# Altium footprint library XM125.PcbLib: 3 footprints
Each footprint in its own frame and in the unit in brackets; x right, y up, seen from the top. Pads: shape width x height; smd on the part's side, far side on the other; paste and mask are expansions set on the pad; w line width, h text height; cw(c..) or ccw(c..) is an arc to the next point about the centre after c.
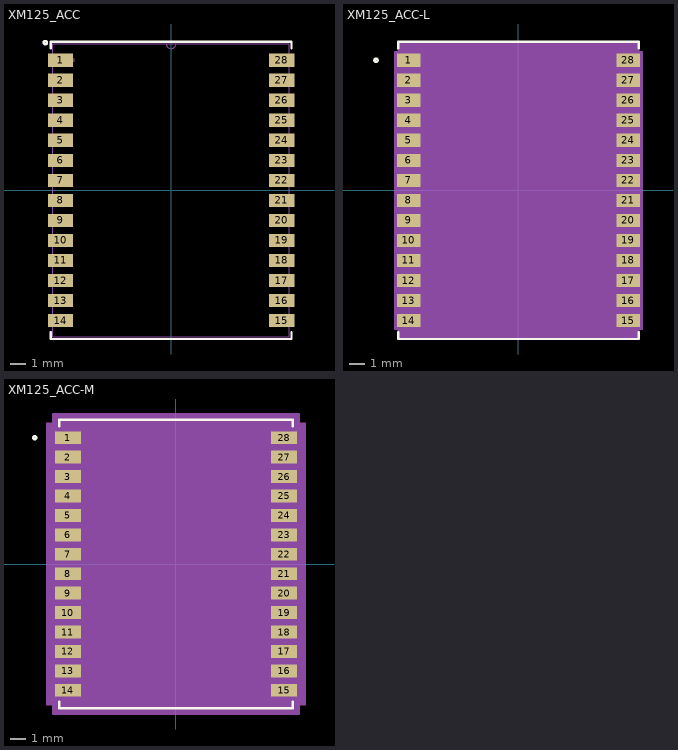
[diagram p0: the footprints below, top view; thin cyan lines are the x and y axes]

## XM125_ACC [mil]
pads (28):
  rect 63x33 smd paste+0 mask+0: 1(-276,325) 2(-276,275) 3(-276,225) 4(-276,175) 5(-276,125) 6(-276,75) 7(-276,25) 8(-276,-25) 9(-276,-75) 10(-276,-125) 11(-276,-175) 12(-276,-225) 13(-276,-275) 14(-276,-325) 15(276,-325) 16(276,-275) 17(276,-225) 18(276,-175) 19(276,-125) 20(276,-75) 21(276,-25) 22(276,25) 23(276,75) 24(276,125) 25(276,175) 26(276,225) 27(276,275) 28(276,325)
Top Overlay:
  circle w6: c-313.98,369.09 r4
  lines w6: -300.5,-354.6 -300.5,-371 300.5,-371 300.5,-354.6 ; -300.5,354.6 -300.5,371 300.5,371 300.5,354.6
Mechanical 13:
  circle w1: c-244.5,325 r3
  lines w1: -12,366 ccw(c0,366) 12,366 ; -295.5,-366 -295.5,366 295.5,366 295.5,-366 -295.5,-366
  text ".Designator" at 165,395 h39.37
3D body "XM125.STEP": height 62.99, standoff -1, extent -295.5,-366.28 295.05,366

## XM125_ACC-L [mil]
pads (28):
  rect 59x33 smd paste+0 mask+0: 1(-274,325) 2(-274,275) 3(-274,225) 4(-274,175) 5(-274,125) 6(-274,75) 7(-274,25) 8(-274,-25) 9(-274,-75) 10(-274,-125) 11(-274,-175) 12(-274,-225) 13(-274,-275) 14(-274,-325) 15(274,-325) 16(274,-275) 17(274,-225) 18(274,-175) 19(274,-125) 20(274,-75) 21(274,-25) 22(274,25) 23(274,75) 24(274,125) 25(274,175) 26(274,225) 27(274,275) 28(274,325)
Top Overlay:
  circle w6: c-355.5,325 r4
  lines w6: -300.5,-354.6 -300.5,-371 300.5,-371 300.5,-354.6 ; -300.5,354.6 -300.5,371 300.5,371 300.5,354.6
  text ".Designator" at -137.5,-25 h50
Mechanical 13:
  circle w1: c-244.5,325 r3
  lines w1: -12,366 ccw(c0,366) 12,366 ; -295.5,-366 295.5,-366 295.5,366 -295.5,366 -295.5,-366
  text ".Designator" at -137.5,-25 h50
Mechanical 15:
  region: -299.5,-345.5 -307.5,-345.5 -307.5,345.5 -299.5,345.5 -299.5,370 299.5,370 299.5,345.5 307.5,345.5 307.5,-345.5 299.5,-345.5 299.5,-370 -299.5,-370
  lines w6: -307.5,-345.5 -307.5,345.5 -299.5,345.5 -299.5,370 299.5,370 299.5,345.5 307.5,345.5 307.5,-345.5 299.5,-345.5 299.5,-370 -299.5,-370 -299.5,-345.5 -307.5,-345.5
3D body "XM125_ACC.step": height 39.09, standoff 0, extent -295.51,-365.98 295.51,365.98

## XM125_ACC-M [mil]
pads (28):
  rect 67x33 smd paste+0 mask+0: 1(-278,325) 2(-278,275) 3(-278,225) 4(-278,175) 5(-278,125) 6(-278,75) 7(-278,25) 8(-278,-25) 9(-278,-75) 10(-278,-125) 11(-278,-175) 12(-278,-225) 13(-278,-275) 14(-278,-325) 15(278,-325) 16(278,-275) 17(278,-225) 18(278,-175) 19(278,-125) 20(278,-75) 21(278,-25) 22(278,25) 23(278,75) 24(278,125) 25(278,175) 26(278,225) 27(278,275) 28(278,325)
Top Overlay:
  circle w6: c-363.5,325 r4
  lines w6: -300.5,-354.6 -300.5,-371 300.5,-371 300.5,-354.6 ; -300.5,354.6 -300.5,371 300.5,371 300.5,354.6
  text ".Designator" at -137.5,-25 h50
Mechanical 13:
  circle w1: c-244.5,325 r3
  lines w1: -12,366 ccw(c0,366) 12,366 ; -295.5,-366 295.5,-366 295.5,366 -295.5,366 -295.5,-366
  text ".Designator" at -137.5,-25 h50
Mechanical 15:
  region: -315.5,-361.5 -331.5,-361.5 -331.5,361.5 -315.5,361.5 -315.5,386 315.5,386 315.5,361.5 331.5,361.5 331.5,-361.5 315.5,-361.5 315.5,-386 -315.5,-386
  lines w6: -331.5,-361.5 -331.5,361.5 -315.5,361.5 -315.5,386 315.5,386 315.5,361.5 331.5,361.5 331.5,-361.5 315.5,-361.5 315.5,-386 -315.5,-386 -315.5,-361.5 -331.5,-361.5
3D body "XM125_ACC.step": height 39.09, standoff 0, extent -295.51,-365.98 295.51,365.98